# Altium footprint library mypcblib.PcbLib: 5 footprints
Each footprint in its own frame and in the unit in brackets; x right, y up, seen from the top. Pads: shape width x height; smd on the part's side, far side on the other; paste and mask are expansions set on the pad; w line width, h text height; cw(c..) or ccw(c..) is an arc to the next point about the centre after c.
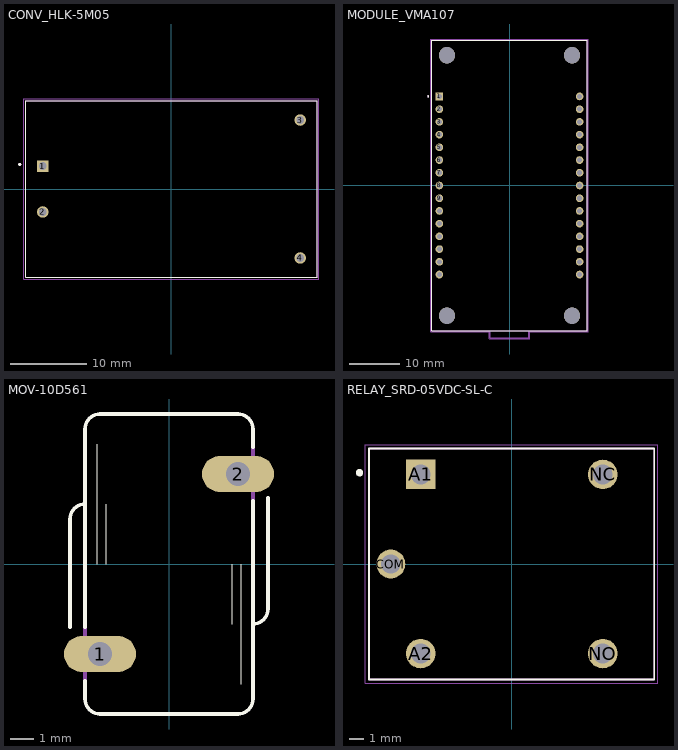
[diagram p0: the footprints below, top view; thin cyan lines are the x and y axes]

## CONV_HLK-5M05 [mm]
pads (4):
  rect 1.5x1.5 / inner round 1.5 / far side rect 1.5x1.5 hole 1: 1(-16.8,3)
  round 1.5 hole 1: 2(-16.8,-3) 3(16.8,9) 4(16.8,-9)
Top Overlay:
  circle w0.2: c-19.8,3.2 r0.1
  lines w0.127: -19,-11.5 -19,11.5 19,11.5 19,-11.5 -19,-11.5
Mechanical 13:
  circle w0.2: c-19.8,3.2 r0.1
  lines w0.127: -19,-11.5 19,-11.5 19,11.5 -19,11.5 -19,-11.5
Mechanical 15:
  lines w0.05: -19.25,-11.75 19.25,-11.75 19.25,11.75 -19.25,11.75 -19.25,-11.75
3D body "step_temp.STEP": height 23, standoff 0, extent -19,-11.5 19,11.5

## MODULE_VMA107 [mm]
pads (34):
  rect 1.53x1.53 hole 1.02: 1(-14,17.78)
  round 1.53 hole 1.02: 2(-14,15.24) 3(-14,12.7) 4(-14,10.16) 5(-14,7.62) 6(-14,5.08) 7(-14,2.54) 8(-14,0) 9(-14,-2.54) 10(-14,-5.08) 11(-14,-7.62) 12(-14,-10.16) 13(-14,-12.7) 14(-14,-15.24) 15(-14,-17.78) 16(14,-17.78) 17(14,-15.24) 18(14,-12.7) 19(14,-10.16) 20(14,-7.62) 21(14,-5.08) 22(14,-2.54) 23(14,0) 24(14,2.54) 25(14,5.08) 26(14,7.62) 27(14,10.16) 28(14,12.7) 29(14,15.24) 30(14,17.78)
  round 3.25 hole 3.25 unplated: ""(-12.5,-26) ""(-12.5,26) ""(12.5,-26) ""(12.5,26)
Top Overlay:
  circle w0.2: c-16.25,17.78 r0.1
  lines w0.127: -15.5,-29 15.5,-29 15.5,29 -15.5,29 -15.5,-29
Mechanical 13:
  circle w0.2: c-16.25,17.78 r0.1
  lines w0.127: -3.81,-29 -3.81,-30.4 3.81,-30.4 3.81,-29 ; -15.5,-29 15.5,-29 15.5,29 -15.5,29 -15.5,-29
Mechanical 15:
  lines w0.05: -15.75,-29.25 -4.06,-29.25 -4.06,-30.65 4.06,-30.65 4.06,-29.25 15.75,-29.25 15.75,29.25 -15.75,29.25 -15.75,-29.25

## MOV-10D561 [mil]
pads (2):
  oval 120x60 hole 40: 1(-115,-150) 2(115,150)
Top Overlay:
  lines w2: -120,0 -120,200 ; -105,0 -105,100 ; 105,-100 105,0 ; 120,-200 120,0
  lines w6: -165,-105 -165,75 cw(c-140,75) -140,100 ; -140,-195 -140,-225 ccw(c-115,-225) -115,-250 115,-250 ccw(c115,-225) 140,-225 140,105 ; -140,-105 -140,225 cw(c-115,225) -115,250 115,250 cw(c115,225) 140,225 140,195 ; 140,-100 ccw(c140,-75) 165,-75 165,110
Mechanical 13:
  lines w6: -165,-145 ccw(c-140,-145) -140,-170 ; -140,-195 -140,-105 ; 140,105 140,195 ; 140,170 cw(c140,145) 165,145
3D body "step_temp.STEP": height 610.24, standoff -669.29, extent -246.06,-78.74 246.06,78.74

## PCBComponent_1 [mm]

## RELAY_SRD-05VDC-SL-C [mm]
pads (5):
  rect 1.98x1.98 / inner round 1.98 / far side rect 1.98x1.98 hole 1.32: A1(-6.1,6)
  round 1.98 hole 1.32: A2(-6.1,-6) NC(6.1,6) NO(6.1,-6)
  round 1.935 hole 1.29: COM(-8.1,0)
Top Overlay:
  circle w0.3: c-10.2,6.119 r0.1
  lines w0.127: -9.55,-7.75 -9.55,7.75 9.55,7.75 9.55,-7.75 -9.55,-7.75
Mechanical 13:
  lines w0.127: -9.55,-7.75 -9.55,7.75 9.55,7.75 9.55,-7.75 -9.55,-7.75
Mechanical 15:
  lines w0.05: -9.8,-8 -9.8,8 9.8,8 9.8,-8 -9.8,-8
3D body "step_temp.STEP": height 15.8, standoff -3, extent -9.6,-7.8 9.6,7.8